# Altium schematic symbol library 2.54_Connectors.SchLib: 6 symbols
Pins are listed as number, name and electrical type; pins without a type are passive.

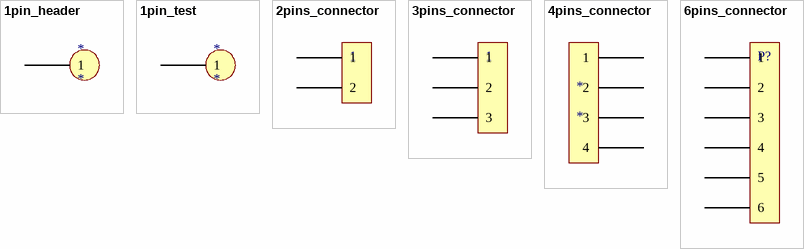
[diagram p0: symbols 1pin_header to 6pins_connector]

## 1pin_header
designator *
footprint 1_PIN_2.54
pins: 1

## 1pin_test
designator *
footprint 1_PIN_test
pins: 1

## 2pins_connector
designator 1  (value not drawn)
footprint 2_PINS_2.54
pins: 1, 2

## 3pins_connector
designator 1  (value not drawn)
footprint 3_PINS_2.54
pins: 1, 2, 3

## 4pins_connector
designator *
footprint 4_PINS_2.54
pins: 1, 2, 3, 4

## 6pins_connector
designator P?  (value not drawn)
footprint 6_PINS_2.54
pins: 1, 2, 3, 4, 5, 6